# Altium integrated library NXP_DACs_and_ADCs.IntLib: 1 symbol
Pins are listed as number, name and electrical type; pins without a type are passive.

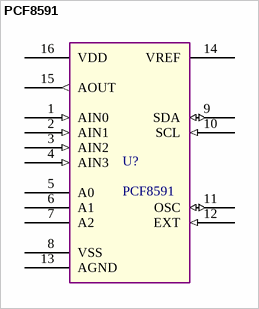
[diagram p0: symbol PCF8591]

## PCF8591
designator U?
8-bit A/D and D/A converter; Supplier 1: Mouser; Supplier Part Number 1: 771-PCF8591TD-T; ComponentLink1Description: Datasheet; ComponentLink1URL: https://www.nxp.com/docs/en/data-sheet/PCF8591.pdf
footprint DIP762W45P254L19H32Q16 (DIP16 IPC-7351C)
footprint SOT127P43X265-16 (SOT162-1)
pins: 1 AIN0 (in) "analog inputs (A/D converter)", 2 AIN1 (in) "analog inputs (A/D converter)", 3 AIN2 (in) "analog inputs (A/D converter)", 4 AIN3 (in) "analog inputs (A/D converter)", 5 A0 "hardware slave address", 6 A1 "hardware slave address", 7 A2 "hardware slave address", 8 VSS (power) "ground supply voltage", 9 SDA (io) "I2C-bus serial data input and output", 10 SCL (in) "I2C-bus serial clock input", 11 OSC (io) "oscillator input/output", 12 EXT (in) "external/internal switch for oscillator input", 13 AGND (power) "analog ground supply", 14 VREF (power) "voltage reference input", 15 AOUT (out) "analog output (D/A converter)", 16 VDD (power) "supply voltage"